# EAGLE library part MICRO-SIM (library wimax-cpe)
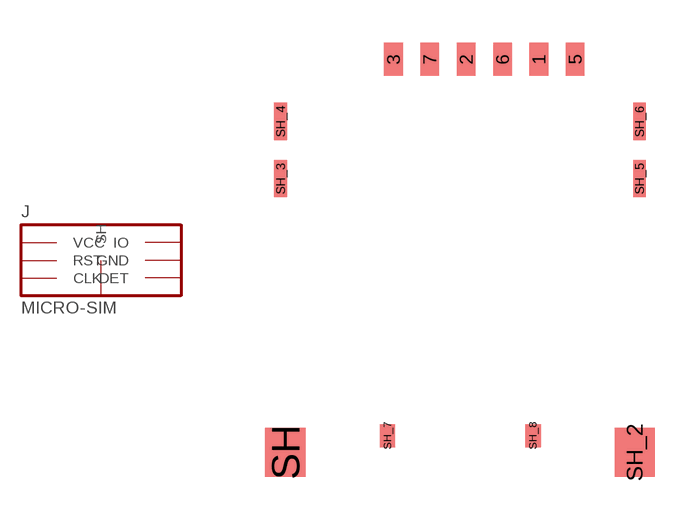
[diagram p1: symbol with the pads of MICROSIM; footprint MICROSIM]

Designator prefix J

## MICRO-SIM  [MICROSIM]
1  VCC
2  RST
3  CLK
5  GND
6  DET
7  IO
SH  SH
SH_2  SH
SH_3  SH
SH_4  SH
SH_5  SH
SH_6  SH
SH_7  SH
SH_8  SH

## Footprint MICROSIM (pad centres in mm)
JAE SF53S006VCBR2000 micro-SIM holder — for the UIM pins of a mini-PCIe modem card
smd 0.65 x 1.15: 1 2.755,6.62; 2 0.215,6.62; 3 -2.325,6.62; 5 4.025,6.62; 6 1.485,6.62; 7 -1.055,6.62
smd 1.4 x 1.7: SH -6.105,-7.11; SH_2 6.105,-7.11
smd 0.45 x 1.3: SH_3 -6.27,2.45; SH_4 -6.27,4.45; SH_5 6.27,2.45; SH_6 6.27,4.45
smd 0.54 x 0.8: SH_7 -2.535,-6.53; SH_8 2.545,-6.53